# Altium integrated library AP1501A-33K5G-13.IntLib: 1 symbol
Pins are listed as number, name and electrical type; pins without a type are passive.

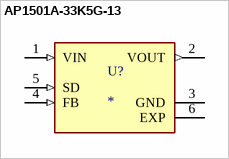
[diagram p0: symbol AP1501A-33K5G-13]

## AP1501A-33K5G-13
designator U?
Voltage stabiliser; PMIC; 5A; TO263-5; SMD; buck; -20Ã·85Â°C; 800pcs.; MP: AP1501A-33K5G-13; Package: None; Price: None; Value: *; Availability: Unavailable
footprint DPAK171P1524X485-6N
pins: 1 VIN (in), 2 VOUT (out), 3 GND (power), 4 FB (in), 5 SD (in), 6 EXP (power)